# Altium footprint library US-8.PcbLib: 1 footprints
Each footprint in its own frame and in the unit in brackets; x right, y up, seen from the top. Pads: shape width x height; smd on the part's side, far side on the other; paste and mask are expansions set on the pad; w line width, h text height; cw(c..) or ccw(c..) is an arc to the next point about the centre after c.
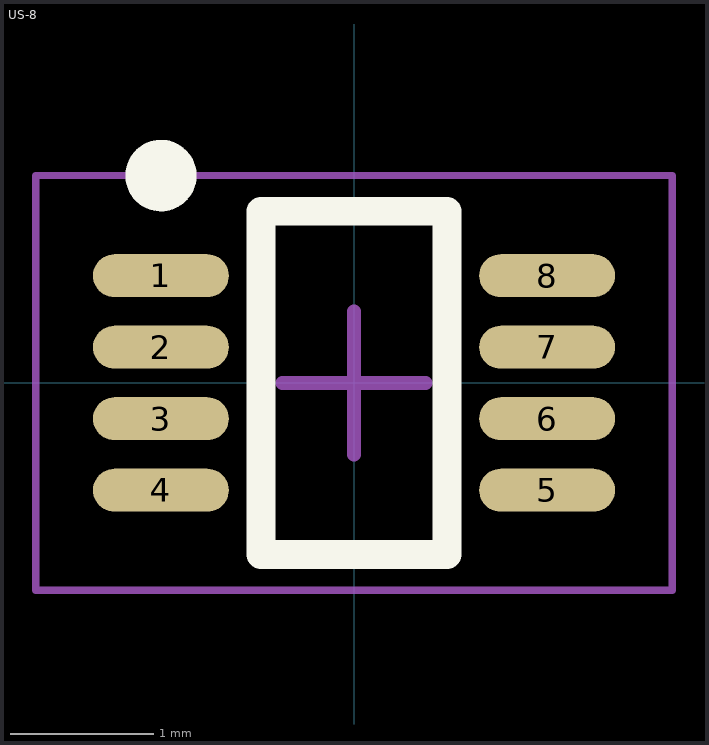
[diagram p0: the footprint, top view; thin cyan lines are the x and y axes]

## US-8 [mm] "US, 8-Leads, Body 2,30x2,00mm, Pitch 0,50mm, IPC Medium Density"
height 0.9
pads (8):
  oval 0.95x0.3 smd: 1(-1.35,0.75) 2(-1.35,0.25) 3(-1.35,-0.25) 4(-1.35,-0.75) 5(1.35,-0.75) 6(1.35,-0.25) 7(1.35,0.25) 8(1.35,0.75)
Top Overlay:
  circle w0.25: c-1.35,1.45 r0.125
  lines w0.2: -0.65,-1.2 -0.65,1.2 0.65,1.2 0.65,-1.2 -0.65,-1.2
Mechanical 15:
  lines w0.05: -2.225,-1.45 -2.225,1.45 2.225,1.45 2.225,-1.45 -2.225,-1.45
  lines w0.1: -0.5,0 0.5,0 ; 0,-0.5 0,0.5
3D body "US-8.step": height 0.9, standoff 0, extent -1.55,-1.2 1.55,1.2